# Altium footprint library SRN4018.PcbLib: 1 footprints
Each footprint in its own frame and in the unit in brackets; x right, y up, seen from the top. Pads: shape width x height; smd on the part's side, far side on the other; paste and mask are expansions set on the pad; w line width, h text height; cw(c..) or ccw(c..) is an arc to the next point about the centre after c.
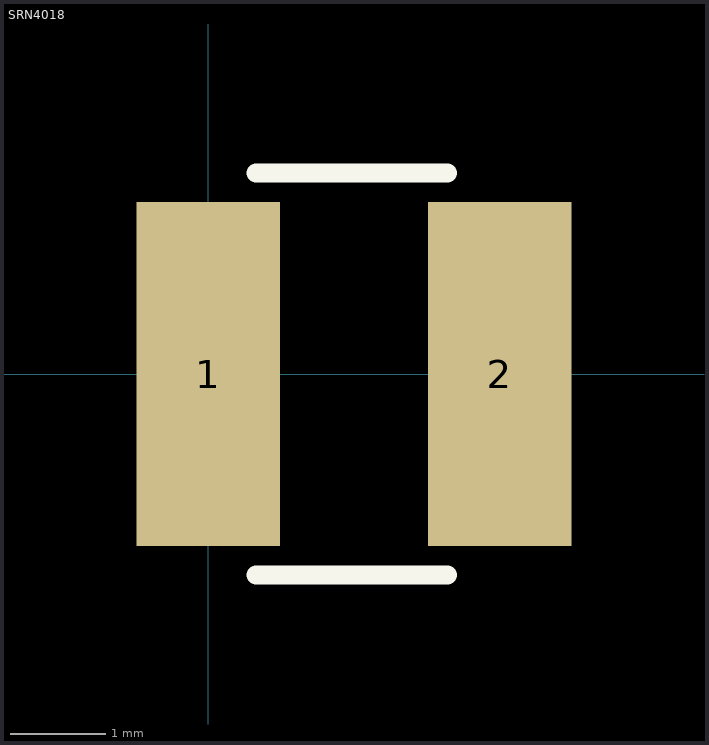
[diagram p0: the footprint, top view; thin cyan lines are the x and y axes]

## SRN4018 [mm] "Bourns SRN4018 Series"
pads (2):
  rect 1.5x3.6 smd: 1(0,0) 2(3.05,0)
Top Overlay:
  lines w0.2: 0.5,-2.1 2.5,-2.1 ; 0.5,2.1 2.5,2.1
3D body "srn4018.stp": height 1.79, standoff -0.01, extent -0.7,-2 3.7,2